# Altium schematic symbol library 轻触开关.SchLib: 1 symbol
Pins are listed as number, name and electrical type; pins without a type are passive.

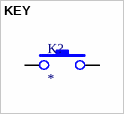
[diagram p0: symbol KEY]

## KEY
designator K?
footprint DIP-3X6X4.3
footprint DIP-3X6X4.3_C
footprint DIP-3X6X5
footprint DIP-3X6X5_C
footprint DIP-6X6X4.3
footprint DIP-6X6X4.3_C
footprint DIP-6X6X5
footprint DIP-6X6X5_C
footprint DIP-6X6X5_C
footprint DIP-6X6X6
footprint DIP-6X6X6_C
footprint DIP-6X6X7
footprint DIP-6X6X7_C
footprint DIP-6X6X8
footprint DIP-6X6X8_C
footprint DIP-6X6X9
footprint DIP-6X6X9_C
footprint DIP-6X6X10
footprint DIP-6X6X10_C
footprint DIP-6X6X11
footprint DIP-6X6X11_C
footprint DIP-6X6X12
footprint DIP-6X6X12_C
footprint DIP-6X6X13
footprint DIP-6X6X14 (6*6*14mm)
footprint DIP-6X6X15
footprint DIP-12X12X4.3
footprint DIP-12X12X5
footprint DIP-12X12X6
footprint DIP-12X12X8
footprint DIP-12X12X9
footprint DIP-12X12X10
footprint DIP-12X12X11
footprint DIP-12X12X12
footprint DIP-12X12X13
footprint SMD-3X6X2.5
footprint SMD-3X6X4.3
footprint SMD-3X6X5
footprint SMD-4X4X1.5
footprint SMD-6X6X4.3
footprint SMD-6X6X5
footprint SMD-6X6X6
footprint SMD-6X6X7
footprint SMD-6X6X8
footprint SMD-6X6X9
footprint SMD-6X6X10
footprint SMD-6X6X11
footprint SMD-6X6X12
footprint SMD-6X6X13 (6*6*13mm)
footprint SMD-6X6X14
footprint SMD-6X6X15
footprint SMD-12X12X4.3
footprint SMD-12X12X5
footprint SMD-12X12X6
footprint SMD-12X12X7
footprint SMD-12X12X8 (12*12*8mm)
footprint SMD-12X12X9
footprint SMD-12X12X10
footprint SMD-12X12X11
footprint SMD-12X12X12 (12*12*12mm)
footprint SMD-12X12X13
footprint SMD-SW2X4
footprint SMD-SW3X6X3.5 (轻触开关, 侧按)
pins: 1, 3